# EAGLE library part TWE-LITE-DIP-WA (library IC)
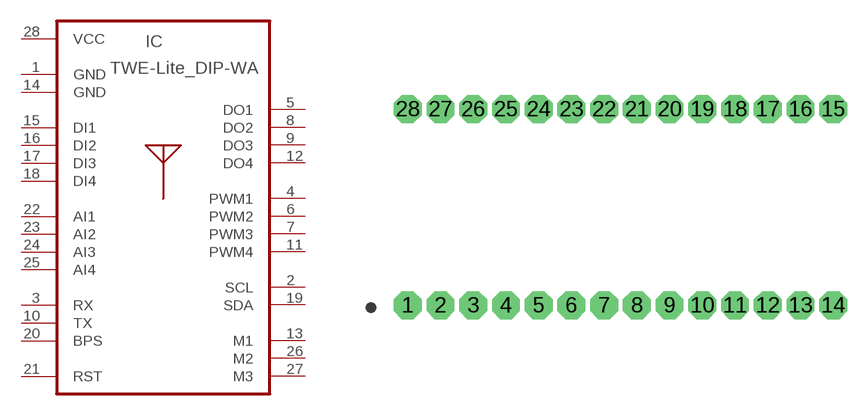
[diagram p3: symbol with the pads of DIP28-2.54; footprint DIP28-2.54]

Designator prefix IC

## TWE-LITE-DIP-WA  [DIP28-2.54]
1  GND  pwr
2  SCL
3  RX  in
4  PWM1  out
5  DO1  out
6  PWM2  out
7  PWM3  out
8  DO2  out
9  DO3  out
10  TX  out
11  PWM4  out
12  DO4  out
13  M1  in
14  GND  pwr
15  DI1  in
16  DI2  in
17  DI3  in
18  DI4  in
19  SDA
20  BPS  in
21  RST  in
22  AI1  in
23  AI2  in
24  AI3  in
25  AI4  in
26  M2  in
27  M3  in
28  VCC  pwr

## Footprint DIP28-2.54 (pad centres in mm)
drill 1.016 pad 2.159 octagon: 1 -16.51,-7.62; 2 -13.97,-7.62; 3 -11.43,-7.62; 4 -8.89,-7.62; 5 -6.35,-7.62; 6 -3.81,-7.62; 7 -1.27,-7.62; 8 1.27,-7.62; 9 3.81,-7.62; 10 6.35,-7.62; 11 8.89,-7.62; 12 11.43,-7.62; 13 13.97,-7.62; 14 16.51,-7.62; 15 16.51,7.62; 16 13.97,7.62; 17 11.43,7.62; 18 8.89,7.62; 19 6.35,7.62; 20 3.81,7.62; 21 1.27,7.62; 22 -1.27,7.62; 23 -3.81,7.62; 24 -6.35,7.62; 25 -8.89,7.62; 26 -11.43,7.62; 27 -13.97,7.62; 28 -16.51,7.62